# Altium footprint library DPAK_SMD.PcbLib: 28 footprints (part 1 of 2)
Each footprint in its own frame and in the unit in brackets; x right, y up, seen from the top. Pads: shape width x height; smd on the part's side, far side on the other; paste and mask are expansions set on the pad; w line width, h text height; cw(c..) or ccw(c..) is an arc to the next point about the centre after c.
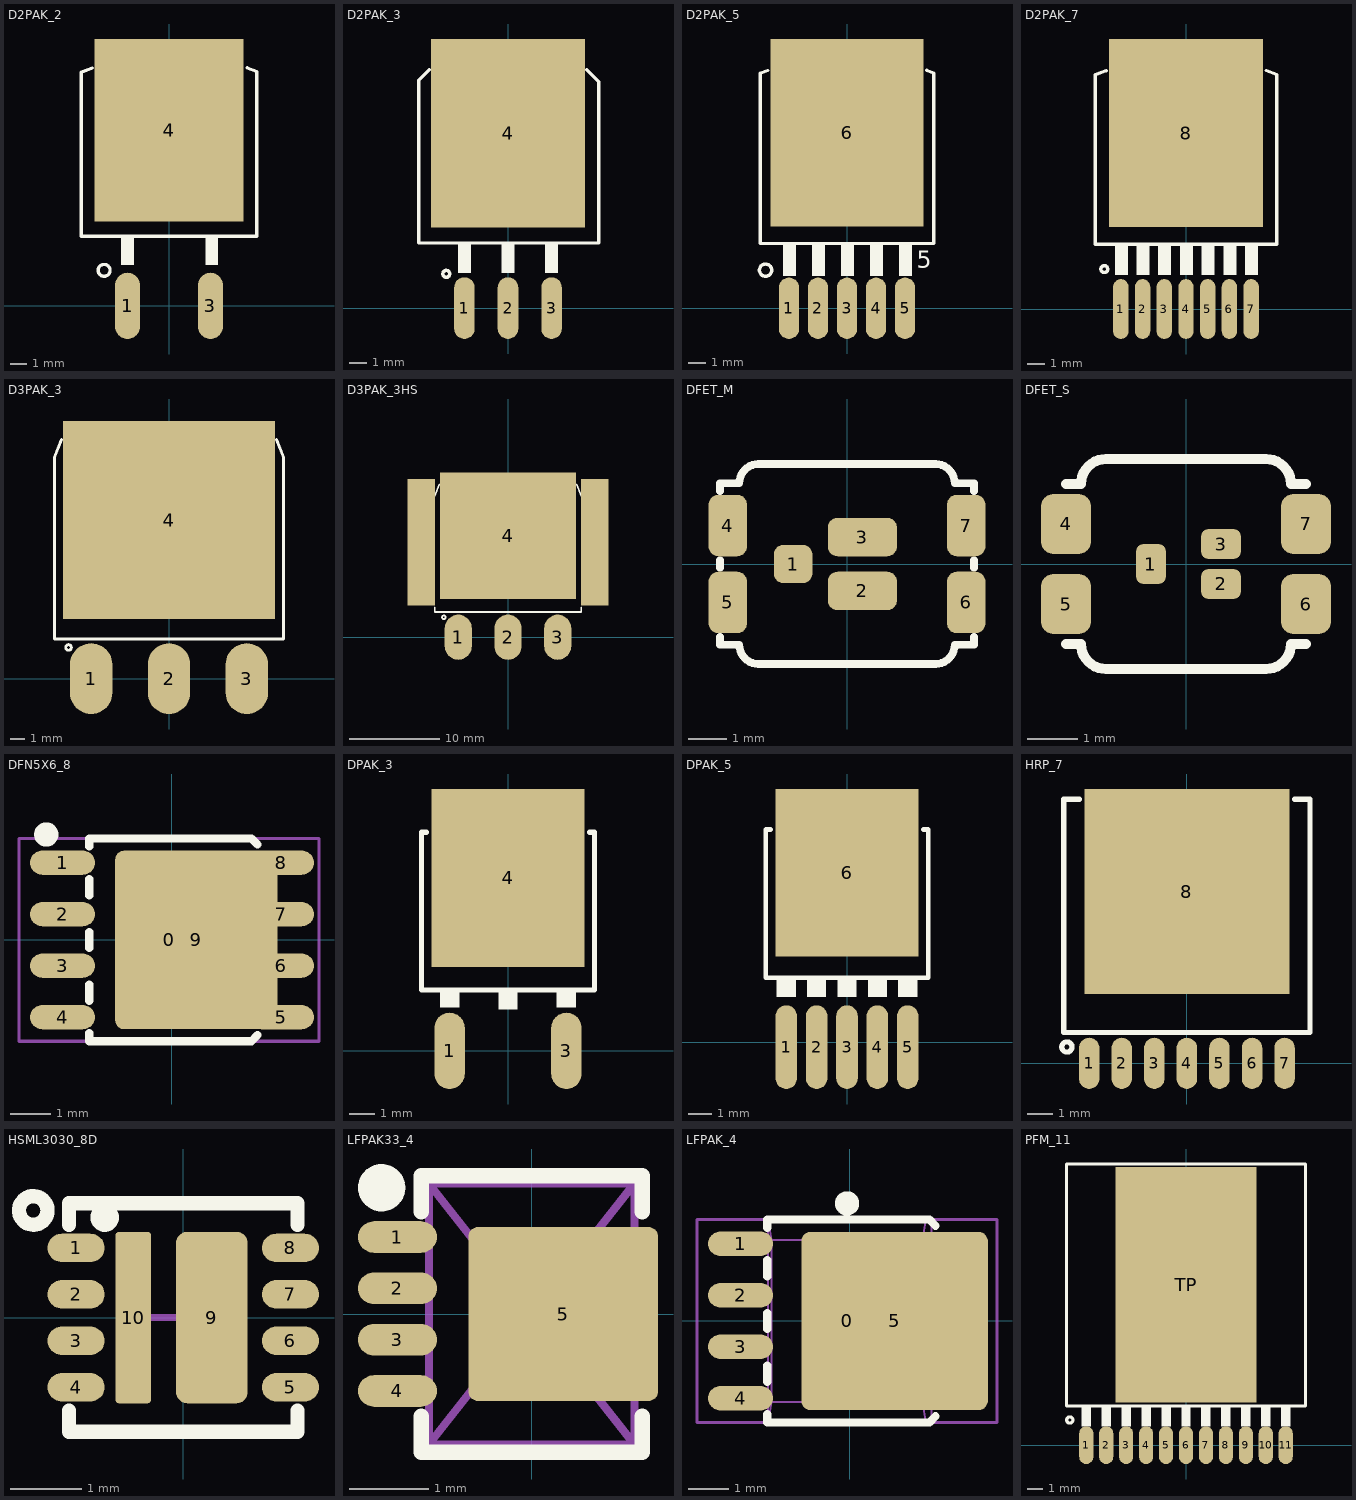
[diagram p0: the footprints below, top view; thin cyan lines are the x and y axes]

## D2PAK_2 [mm] "D2PAK-3, FMG500_3_S1000"
pads (3):
  oval 1.5x4 smd: 1(-2.5,0) 3(2.5,0)
  rect 9x11 smd paste-5: 4(0,10.6)
Top Overlay:
  circle w0.2: c-3.915,2.14 r0.359
  rectangle: 2.199,2.451 2.961,4.175
  rectangle: -2.881,2.451 -2.119,4.175
  lines w0.2: -4.618,14.352 -5.3,14.094 -5.3,4.2 5.3,4.2 5.3,14.139 4.724,14.358
Top Paste:
  region: -0.2,7.7 -1.2,7.7 -1.2,6.7 -0.2,6.7
  rectangle: -4,6.7 -3,7.7
  region: -0.2,8.1 -0.2,9.1 -1.2,9.1 -1.2,8.1
  region: -3,5.3 -3,6.3 -4,6.3 -4,5.3
  rectangle: -4,8.1 -3,9.1
  rectangle: -2.6,6.7 -1.6,7.7
  rectangle: -1.2,5.3 -0.2,6.3
  region: -1.6,5.3 -1.6,6.3 -2.6,6.3 -2.6,5.3
  region: -2.6,9.1 -2.6,8.1 -1.6,8.1 -1.6,9.1
  region: -2.6,13.3 -2.6,12.3 -1.6,12.3 -1.6,13.3
  region: -1.6,9.5 -1.6,10.5 -2.6,10.5 -2.6,9.5
  rectangle: -1.2,9.5 -0.2,10.5
  rectangle: -2.6,10.9 -1.6,11.9
  rectangle: -4,12.3 -3,13.3
  region: -3,9.5 -3,10.5 -4,10.5 -4,9.5
  region: -0.2,12.3 -0.2,13.3 -1.2,13.3 -1.2,12.3
  rectangle: -4,10.9 -3,11.9
  region: -0.2,11.9 -1.2,11.9 -1.2,10.9 -0.2,10.9
  region: -0.2,14.7 -1.2,14.7 -1.2,13.7 -0.2,13.7
  rectangle: -4,13.7 -3,14.7
  rectangle: -2.6,13.7 -1.6,14.7
  region: 2.6,14.7 1.6,14.7 1.6,13.7 2.6,13.7
  region: 4,14.7 3,14.7 3,13.7 4,13.7
  rectangle: 0.2,13.7 1.2,14.7
  rectangle: 0.2,10.9 1.2,11.9
  region: 4,11.9 3,11.9 3,10.9 4,10.9
  region: 1.2,12.3 1.2,13.3 0.2,13.3 0.2,12.3
  region: 4,9.5 4,10.5 3,10.5 3,9.5
  region: 4,13.3 3,13.3 3,12.3 4,12.3
  region: 2.6,11.9 1.6,11.9 1.6,10.9 2.6,10.9
  region: 1.2,10.5 0.2,10.5 0.2,9.5 1.2,9.5
  region: 2.6,9.5 2.6,10.5 1.6,10.5 1.6,9.5
  region: 1.6,13.3 1.6,12.3 2.6,12.3 2.6,13.3
  region: 1.6,9.1 1.6,8.1 2.6,8.1 2.6,9.1
  region: 2.6,5.3 2.6,6.3 1.6,6.3 1.6,5.3
  region: 1.2,6.3 0.2,6.3 0.2,5.3 1.2,5.3
  region: 2.6,7.7 1.6,7.7 1.6,6.7 2.6,6.7
  region: 4,9.1 3,9.1 3,8.1 4,8.1
  region: 4,5.3 4,6.3 3,6.3 3,5.3
  region: 1.2,8.1 1.2,9.1 0.2,9.1 0.2,8.1
  region: 4,7.7 3,7.7 3,6.7 4,6.7
  rectangle: 0.2,6.7 1.2,7.7
3D body "User Library-D2PAK.step": height 4.83, standoff 0, extent -5.335,-0.8 5.335,15.08

## D2PAK_3 [mm] "D2-PAK, 4-Pads, Body 7.6x8.6mm"
height 4.7
pads (4):
  oval 1.2x3.6 smd: 1(-2.54,0) 2(0,0) 3(2.54,0)
  rect 9x11 smd paste-6: 4(0,10.2)
Top Overlay:
  circle w0.2: c-3.6,2 r0.2
  rectangle: -2.921,2.051 -2.159,3.775
  rectangle: -0.381,2.051 0.381,3.775
  rectangle: 2.159,2.051 2.921,3.775
  lines w0.2: -4.605,13.901 -5.2,13.294 -5.2,3.8 5.3,3.8 5.3,13.194 ; 4.605,13.901 5.299,13.193
Top Paste:
  rectangle: 0.2,6.7 1.2,7.7
  region: 4,7.7 3,7.7 3,6.7 4,6.7
  region: 1.2,8.1 1.2,9.1 0.2,9.1 0.2,8.1
  region: 4,5.3 4,6.3 3,6.3 3,5.3
  region: 4,9.1 3,9.1 3,8.1 4,8.1
  region: 2.6,7.7 1.6,7.7 1.6,6.7 2.6,6.7
  region: 1.2,6.3 0.2,6.3 0.2,5.3 1.2,5.3
  region: 2.6,5.3 2.6,6.3 1.6,6.3 1.6,5.3
  region: 1.6,9.1 1.6,8.1 2.6,8.1 2.6,9.1
  region: 1.6,13.3 1.6,12.3 2.6,12.3 2.6,13.3
  region: 2.6,9.5 2.6,10.5 1.6,10.5 1.6,9.5
  region: 1.2,10.5 0.2,10.5 0.2,9.5 1.2,9.5
  region: 2.6,11.9 1.6,11.9 1.6,10.9 2.6,10.9
  region: 4,13.3 3,13.3 3,12.3 4,12.3
  region: 4,9.5 4,10.5 3,10.5 3,9.5
  region: 1.2,12.3 1.2,13.3 0.2,13.3 0.2,12.3
  region: 4,11.9 3,11.9 3,10.9 4,10.9
  rectangle: 0.2,10.9 1.2,11.9
  rectangle: 0.2,13.7 1.2,14.7
  region: 4,14.7 3,14.7 3,13.7 4,13.7
  region: 2.6,14.7 1.6,14.7 1.6,13.7 2.6,13.7
  rectangle: -2.6,13.7 -1.6,14.7
  rectangle: -4,13.7 -3,14.7
  region: -0.2,14.7 -1.2,14.7 -1.2,13.7 -0.2,13.7
  region: -0.2,11.9 -1.2,11.9 -1.2,10.9 -0.2,10.9
  rectangle: -4,10.9 -3,11.9
  region: -0.2,12.3 -0.2,13.3 -1.2,13.3 -1.2,12.3
  region: -3,9.5 -3,10.5 -4,10.5 -4,9.5
  rectangle: -4,12.3 -3,13.3
  rectangle: -2.6,10.9 -1.6,11.9
  rectangle: -1.2,9.5 -0.2,10.5
  region: -1.6,9.5 -1.6,10.5 -2.6,10.5 -2.6,9.5
  region: -2.6,13.3 -2.6,12.3 -1.6,12.3 -1.6,13.3
  region: -2.6,9.1 -2.6,8.1 -1.6,8.1 -1.6,9.1
  region: -1.6,5.3 -1.6,6.3 -2.6,6.3 -2.6,5.3
  rectangle: -1.2,5.3 -0.2,6.3
  rectangle: -2.6,6.7 -1.6,7.7
  rectangle: -4,8.1 -3,9.1
  region: -3,5.3 -3,6.3 -4,6.3 -4,5.3
  region: -0.2,8.1 -0.2,9.1 -1.2,9.1 -1.2,8.1
  rectangle: -4,6.7 -3,7.7
  region: -0.2,7.7 -1.2,7.7 -1.2,6.7 -0.2,6.7
3D body "User Library-TO263-3-1.STEP": height 4.6, standoff -0.03, extent -5.167,-1.254 5.233,14.596

## D2PAK_5 [mm] "TO-263-5L, D2PAK-5, DDPAK, FMG170_5_S1000"
pads (6):
  oval 1.2x3.6 smd: 1(-3.404,0) 2(-1.702,0) 3(0,0) 4(1.702,0) 5(3.404,0)
  rect 9x11 smd paste-6: 6(0,10.3)
Top Overlay:
  circle w0.2: c-4.779,2.24 r0.359
  rectangle: -3.759,1.9 -2.997,3.764
  rectangle: -2.057,1.9 -1.295,3.764
  rectangle: -0.356,1.9 0.406,3.764
  rectangle: 1.346,1.9 2.108,3.764
  rectangle: 3.048,1.9 3.81,3.764
  lines w0.2: -5.1,13.8 -5.1,3.8 5.1,3.8 5.1,13.8 4.684,13.958 ; -5.06,13.8 -4.658,13.952
  text "5" at 4.089,2.367 h1.02
Top Paste:
  region: -0.2,7.7 -1.2,7.7 -1.2,6.7 -0.2,6.7
  rectangle: -4,6.7 -3,7.7
  region: -0.2,8.1 -0.2,9.1 -1.2,9.1 -1.2,8.1
  region: -3,5.3 -3,6.3 -4,6.3 -4,5.3
  rectangle: -4,8.1 -3,9.1
  rectangle: -2.6,6.7 -1.6,7.7
  rectangle: -1.2,5.3 -0.2,6.3
  region: -1.6,5.3 -1.6,6.3 -2.6,6.3 -2.6,5.3
  region: -2.6,9.1 -2.6,8.1 -1.6,8.1 -1.6,9.1
  region: -2.6,13.3 -2.6,12.3 -1.6,12.3 -1.6,13.3
  region: -1.6,9.5 -1.6,10.5 -2.6,10.5 -2.6,9.5
  rectangle: -1.2,9.5 -0.2,10.5
  rectangle: -2.6,10.9 -1.6,11.9
  rectangle: -4,12.3 -3,13.3
  region: -3,9.5 -3,10.5 -4,10.5 -4,9.5
  region: -0.2,12.3 -0.2,13.3 -1.2,13.3 -1.2,12.3
  rectangle: -4,10.9 -3,11.9
  region: -0.2,11.9 -1.2,11.9 -1.2,10.9 -0.2,10.9
  region: -0.2,14.7 -1.2,14.7 -1.2,13.7 -0.2,13.7
  rectangle: -4,13.7 -3,14.7
  rectangle: -2.6,13.7 -1.6,14.7
  region: 2.6,14.7 1.6,14.7 1.6,13.7 2.6,13.7
  region: 4,14.7 3,14.7 3,13.7 4,13.7
  rectangle: 0.2,13.7 1.2,14.7
  rectangle: 0.2,10.9 1.2,11.9
  region: 4,11.9 3,11.9 3,10.9 4,10.9
  region: 1.2,12.3 1.2,13.3 0.2,13.3 0.2,12.3
  region: 4,9.5 4,10.5 3,10.5 3,9.5
  region: 4,13.3 3,13.3 3,12.3 4,12.3
  region: 2.6,11.9 1.6,11.9 1.6,10.9 2.6,10.9
  region: 1.2,10.5 0.2,10.5 0.2,9.5 1.2,9.5
  region: 2.6,9.5 2.6,10.5 1.6,10.5 1.6,9.5
  region: 1.6,13.3 1.6,12.3 2.6,12.3 2.6,13.3
  region: 1.6,9.1 1.6,8.1 2.6,8.1 2.6,9.1
  region: 2.6,5.3 2.6,6.3 1.6,6.3 1.6,5.3
  region: 1.2,6.3 0.2,6.3 0.2,5.3 1.2,5.3
  region: 2.6,7.7 1.6,7.7 1.6,6.7 2.6,6.7
  region: 4,9.1 3,9.1 3,8.1 4,8.1
  region: 4,5.3 4,6.3 3,6.3 3,5.3
  region: 1.2,8.1 1.2,9.1 0.2,9.1 0.2,8.1
  region: 4,7.7 3,7.7 3,6.7 4,6.7
  rectangle: 0.2,6.7 1.2,7.7
3D body "User Library-D2PAK TO-263-5.step": height 4.87, standoff 0, extent -5.08,-0.84 5.08,13.39

## D2PAK_7 [mm] "TO-263-7, D2PAK-7, NDW-7, TO-PMOD-7"
pads (8):
  oval 0.9x3.5 smd: 1(-3.81,0) 2(-2.54,0) 3(-1.27,0) 4(0,0) 5(1.27,0) 6(2.54,0) 7(3.81,0)
  rect 9x11 smd paste-5: 8(0,10.3)
Top Overlay:
  circle w0.2: c-4.779,2.34 r0.2
  rectangle: 3.454,2 4.216,3.8
  rectangle: 2.184,2 2.946,3.8
  rectangle: 0.914,2 1.676,3.8
  rectangle: -0.356,2 0.406,3.8
  rectangle: -1.626,2 -0.864,3.8
  rectangle: -2.896,2 -2.134,3.8
  rectangle: -4.166,2 -3.404,3.8
  lines w0.2: -4.658,13.952 -5.3,13.709 -5.3,3.8 5.3,3.8 5.3,13.724 4.684,13.958
Top Paste:
  region: -0.2,7.7 -1.2,7.7 -1.2,6.7 -0.2,6.7
  rectangle: -4,6.7 -3,7.7
  region: -0.2,8.1 -0.2,9.1 -1.2,9.1 -1.2,8.1
  region: -3,5.3 -3,6.3 -4,6.3 -4,5.3
  rectangle: -4,8.1 -3,9.1
  rectangle: -2.6,6.7 -1.6,7.7
  rectangle: -1.2,5.3 -0.2,6.3
  region: -1.6,5.3 -1.6,6.3 -2.6,6.3 -2.6,5.3
  region: -2.6,9.1 -2.6,8.1 -1.6,8.1 -1.6,9.1
  region: -2.6,13.3 -2.6,12.3 -1.6,12.3 -1.6,13.3
  region: -1.6,9.5 -1.6,10.5 -2.6,10.5 -2.6,9.5
  rectangle: -1.2,9.5 -0.2,10.5
  rectangle: -2.6,10.9 -1.6,11.9
  rectangle: -4,12.3 -3,13.3
  region: -3,9.5 -3,10.5 -4,10.5 -4,9.5
  region: -0.2,12.3 -0.2,13.3 -1.2,13.3 -1.2,12.3
  rectangle: -4,10.9 -3,11.9
  region: -0.2,11.9 -1.2,11.9 -1.2,10.9 -0.2,10.9
  region: -0.2,14.7 -1.2,14.7 -1.2,13.7 -0.2,13.7
  rectangle: -4,13.7 -3,14.7
  rectangle: -2.6,13.7 -1.6,14.7
  region: 2.6,14.7 1.6,14.7 1.6,13.7 2.6,13.7
  region: 4,14.7 3,14.7 3,13.7 4,13.7
  rectangle: 0.2,13.7 1.2,14.7
  rectangle: 0.2,10.9 1.2,11.9
  region: 4,11.9 3,11.9 3,10.9 4,10.9
  region: 1.2,12.3 1.2,13.3 0.2,13.3 0.2,12.3
  region: 4,9.5 4,10.5 3,10.5 3,9.5
  region: 4,13.3 3,13.3 3,12.3 4,12.3
  region: 2.6,11.9 1.6,11.9 1.6,10.9 2.6,10.9
  region: 1.2,10.5 0.2,10.5 0.2,9.5 1.2,9.5
  region: 2.6,9.5 2.6,10.5 1.6,10.5 1.6,9.5
  region: 1.6,13.3 1.6,12.3 2.6,12.3 2.6,13.3
  region: 1.6,9.1 1.6,8.1 2.6,8.1 2.6,9.1
  region: 2.6,5.3 2.6,6.3 1.6,6.3 1.6,5.3
  region: 1.2,6.3 0.2,6.3 0.2,5.3 1.2,5.3
  region: 2.6,7.7 1.6,7.7 1.6,6.7 2.6,6.7
  region: 4,9.1 3,9.1 3,8.1 4,8.1
  region: 4,5.3 4,6.3 3,6.3 3,5.3
  region: 1.2,8.1 1.2,9.1 0.2,9.1 0.2,8.1
  region: 4,7.7 3,7.7 3,6.7 4,6.7
  rectangle: 0.2,6.7 1.2,7.7
3D body "User Library-D2PAK-7.step": height 4.5, standoff 0, extent -5.2,-1.6 5.2,14.074

## D3PAK_3 [mm] "D3-PAK, 4-Pads, TO-268AA"
height 4.7
pads (4):
  oval 3x5 smd paste-0.5: 1(-5.5,0) 2(0,0) 3(5.5,0)
  rect 15x14 smd paste-8: 4(0,11.2)
Top Overlay:
  circle w0.2: c-7.1,2.2 r0.2
  lines w0.2: -7.6,16.9 -8.1,15.6 -8.1,2.8 8.1,2.8 8.1,15.6 7.6,16.9
Top Paste:
  region: -2.6,15.6 -2.6,14.6 -1.6,14.6 -1.6,15.6
  rectangle: -4,14.6 -3,15.6
  region: -0.2,14.6 -0.2,15.6 -1.2,15.6 -1.2,14.6
  region: -0.2,17 -1.2,17 -1.2,16 -0.2,16
  rectangle: -4,16 -3,17
  rectangle: -2.6,16 -1.6,17
  region: 2.6,17 1.6,17 1.6,16 2.6,16
  region: 4,17 3,17 3,16 4,16
  rectangle: 0.2,16 1.2,17
  region: 1.2,14.6 1.2,15.6 0.2,15.6 0.2,14.6
  region: 4,15.6 3,15.6 3,14.6 4,14.6
  region: 1.6,15.6 1.6,14.6 2.6,14.6 2.6,15.6
  rectangle: -5.4,16 -4.4,17
  rectangle: -6.8,16 -5.8,17
  rectangle: -6.8,14.6 -5.8,15.6
  region: -5.4,15.6 -5.4,14.6 -4.4,14.6 -4.4,15.6
  region: 5.4,17 4.4,17 4.4,16 5.4,16
  region: 6.8,17 5.8,17 5.8,16 6.8,16
  region: 6.8,15.6 5.8,15.6 5.8,14.6 6.8,14.6
  region: 4.4,15.6 4.4,14.6 5.4,14.6 5.4,15.6
  region: 6.8,7.2 5.8,7.2 5.8,6.2 6.8,6.2
  region: 6.8,4.8 6.8,5.8 5.8,5.8 5.8,4.8
  region: 6.8,8.6 5.8,8.6 5.8,7.6 6.8,7.6
  region: 5.4,7.2 4.4,7.2 4.4,6.2 5.4,6.2
  region: 5.4,4.8 5.4,5.8 4.4,5.8 4.4,4.8
  region: 4.4,8.6 4.4,7.6 5.4,7.6 5.4,8.6
  region: 4.4,12.8 4.4,11.8 5.4,11.8 5.4,12.8
  region: 5.4,9 5.4,10 4.4,10 4.4,9
  region: 5.4,11.4 4.4,11.4 4.4,10.4 5.4,10.4
  region: 6.8,12.8 5.8,12.8 5.8,11.8 6.8,11.8
  region: 6.8,9 6.8,10 5.8,10 5.8,9
  region: 6.8,11.4 5.8,11.4 5.8,10.4 6.8,10.4
  region: 6.8,14.2 5.8,14.2 5.8,13.2 6.8,13.2
  region: 5.4,14.2 4.4,14.2 4.4,13.2 5.4,13.2
  rectangle: -6.8,6.2 -5.8,7.2
  region: -5.8,4.8 -5.8,5.8 -6.8,5.8 -6.8,4.8
  rectangle: -6.8,7.6 -5.8,8.6
  rectangle: -5.4,6.2 -4.4,7.2
  region: -4.4,4.8 -4.4,5.8 -5.4,5.8 -5.4,4.8
  region: -5.4,8.6 -5.4,7.6 -4.4,7.6 -4.4,8.6
  region: -5.4,12.8 -5.4,11.8 -4.4,11.8 -4.4,12.8
  region: -4.4,9 -4.4,10 -5.4,10 -5.4,9
  rectangle: -5.4,10.4 -4.4,11.4
  rectangle: -6.8,11.8 -5.8,12.8
  region: -5.8,9 -5.8,10 -6.8,10 -6.8,9
  rectangle: -6.8,10.4 -5.8,11.4
  rectangle: -6.8,13.2 -5.8,14.2
  rectangle: -5.4,13.2 -4.4,14.2
  rectangle: 0.2,6.2 1.2,7.2
  region: 4,7.2 3,7.2 3,6.2 4,6.2
  region: 1.2,7.6 1.2,8.6 0.2,8.6 0.2,7.6
  region: 4,4.8 4,5.8 3,5.8 3,4.8
  region: 4,8.6 3,8.6 3,7.6 4,7.6
  region: 2.6,7.2 1.6,7.2 1.6,6.2 2.6,6.2
  region: 1.2,5.8 0.2,5.8 0.2,4.8 1.2,4.8
  region: 2.6,4.8 2.6,5.8 1.6,5.8 1.6,4.8
  region: 1.6,8.6 1.6,7.6 2.6,7.6 2.6,8.6
  region: 1.6,12.8 1.6,11.8 2.6,11.8 2.6,12.8
  region: 2.6,9 2.6,10 1.6,10 1.6,9
  region: 1.2,10 0.2,10 0.2,9 1.2,9
  region: 2.6,11.4 1.6,11.4 1.6,10.4 2.6,10.4
  region: 4,12.8 3,12.8 3,11.8 4,11.8
  region: 4,9 4,10 3,10 3,9
  region: 1.2,11.8 1.2,12.8 0.2,12.8 0.2,11.8
  region: 4,11.4 3,11.4 3,10.4 4,10.4
  rectangle: 0.2,10.4 1.2,11.4
  rectangle: 0.2,13.2 1.2,14.2
  region: 4,14.2 3,14.2 3,13.2 4,13.2
  region: 2.6,14.2 1.6,14.2 1.6,13.2 2.6,13.2
  rectangle: -2.6,13.2 -1.6,14.2
  rectangle: -4,13.2 -3,14.2
  region: -0.2,14.2 -1.2,14.2 -1.2,13.2 -0.2,13.2
  region: -0.2,11.4 -1.2,11.4 -1.2,10.4 -0.2,10.4
  rectangle: -4,10.4 -3,11.4
  region: -0.2,11.8 -0.2,12.8 -1.2,12.8 -1.2,11.8
  region: -3,9 -3,10 -4,10 -4,9
  rectangle: -4,11.8 -3,12.8
  rectangle: -2.6,10.4 -1.6,11.4
  rectangle: -1.2,9 -0.2,10
  region: -1.6,9 -1.6,10 -2.6,10 -2.6,9
  region: -2.6,12.8 -2.6,11.8 -1.6,11.8 -1.6,12.8
  region: -2.6,8.6 -2.6,7.6 -1.6,7.6 -1.6,8.6
  region: -1.6,4.8 -1.6,5.8 -2.6,5.8 -2.6,4.8
  rectangle: -1.2,4.8 -0.2,5.8
  rectangle: -2.6,6.2 -1.6,7.2
  rectangle: -4,7.6 -3,8.6
  region: -3,4.8 -3,5.8 -4,5.8 -4,4.8
  region: -0.2,7.6 -0.2,8.6 -1.2,8.6 -1.2,7.6
  rectangle: -4,6.2 -3,7.2
  region: -0.2,7.2 -1.2,7.2 -1.2,6.2 -0.2,6.2
3D body "User Library-TO545P1905X510_HS-3.step": height 5.1, standoff 0, extent -8.001,-1.3 8.001,17.75

## D3PAK_3HS [mm] "D3-PAK, 4-Pads, TO-268AA"
height 4.7
pads (6):
  oval 3x5 smd paste-0.5: 1(-5.5,0) 2(0,0) 3(5.5,0)
  rect 15x14 smd paste-8: 4(0,11.2)
  rect 3x14 smd paste-7: ""(-9.6,10.5) ""(9.6,10.5)
Top Overlay:
  circle w0.2: c-7.1,2.2 r0.2
  lines w0.2: -8.1,3.3 -8.1,2.8 8.1,2.8 8.1,3.3 ; -8.1,15.6 -7.6,16.9 ; 7.6,16.9 8.1,15.6
Top Paste:
  region: -2.6,15.6 -2.6,14.6 -1.6,14.6 -1.6,15.6
  rectangle: -4,14.6 -3,15.6
  region: -0.2,14.6 -0.2,15.6 -1.2,15.6 -1.2,14.6
  region: -0.2,17 -1.2,17 -1.2,16 -0.2,16
  rectangle: -4,16 -3,17
  rectangle: -2.6,16 -1.6,17
  region: 2.6,17 1.6,17 1.6,16 2.6,16
  region: 4,17 3,17 3,16 4,16
  rectangle: 0.2,16 1.2,17
  region: 1.2,14.6 1.2,15.6 0.2,15.6 0.2,14.6
  region: 4,15.6 3,15.6 3,14.6 4,14.6
  region: 1.6,15.6 1.6,14.6 2.6,14.6 2.6,15.6
  rectangle: -5.4,16 -4.4,17
  rectangle: -6.8,16 -5.8,17
  rectangle: -6.8,14.6 -5.8,15.6
  region: -5.4,15.6 -5.4,14.6 -4.4,14.6 -4.4,15.6
  region: 5.4,17 4.4,17 4.4,16 5.4,16
  region: 6.8,17 5.8,17 5.8,16 6.8,16
  region: 6.8,15.6 5.8,15.6 5.8,14.6 6.8,14.6
  region: 4.4,15.6 4.4,14.6 5.4,14.6 5.4,15.6
  region: 6.8,7.2 5.8,7.2 5.8,6.2 6.8,6.2
  region: 6.8,4.8 6.8,5.8 5.8,5.8 5.8,4.8
  region: 6.8,8.6 5.8,8.6 5.8,7.6 6.8,7.6
  region: 5.4,7.2 4.4,7.2 4.4,6.2 5.4,6.2
  region: 5.4,4.8 5.4,5.8 4.4,5.8 4.4,4.8
  region: 4.4,8.6 4.4,7.6 5.4,7.6 5.4,8.6
  region: 4.4,12.8 4.4,11.8 5.4,11.8 5.4,12.8
  region: 5.4,9 5.4,10 4.4,10 4.4,9
  region: 5.4,11.4 4.4,11.4 4.4,10.4 5.4,10.4
  region: 6.8,12.8 5.8,12.8 5.8,11.8 6.8,11.8
  region: 6.8,9 6.8,10 5.8,10 5.8,9
  region: 6.8,11.4 5.8,11.4 5.8,10.4 6.8,10.4
  region: 6.8,14.2 5.8,14.2 5.8,13.2 6.8,13.2
  region: 5.4,14.2 4.4,14.2 4.4,13.2 5.4,13.2
  rectangle: -6.8,6.2 -5.8,7.2
  region: -5.8,4.8 -5.8,5.8 -6.8,5.8 -6.8,4.8
  rectangle: -6.8,7.6 -5.8,8.6
  rectangle: -5.4,6.2 -4.4,7.2
  region: -4.4,4.8 -4.4,5.8 -5.4,5.8 -5.4,4.8
  region: -5.4,8.6 -5.4,7.6 -4.4,7.6 -4.4,8.6
  region: -5.4,12.8 -5.4,11.8 -4.4,11.8 -4.4,12.8
  region: -4.4,9 -4.4,10 -5.4,10 -5.4,9
  rectangle: -5.4,10.4 -4.4,11.4
  rectangle: -6.8,11.8 -5.8,12.8
  region: -5.8,9 -5.8,10 -6.8,10 -6.8,9
  rectangle: -6.8,10.4 -5.8,11.4
  rectangle: -6.8,13.2 -5.8,14.2
  rectangle: -5.4,13.2 -4.4,14.2
  rectangle: 0.2,6.2 1.2,7.2
  region: 4,7.2 3,7.2 3,6.2 4,6.2
  region: 1.2,7.6 1.2,8.6 0.2,8.6 0.2,7.6
  region: 4,4.8 4,5.8 3,5.8 3,4.8
  region: 4,8.6 3,8.6 3,7.6 4,7.6
  region: 2.6,7.2 1.6,7.2 1.6,6.2 2.6,6.2
  region: 1.2,5.8 0.2,5.8 0.2,4.8 1.2,4.8
  region: 2.6,4.8 2.6,5.8 1.6,5.8 1.6,4.8
  region: 1.6,8.6 1.6,7.6 2.6,7.6 2.6,8.6
  region: 1.6,12.8 1.6,11.8 2.6,11.8 2.6,12.8
  region: 2.6,9 2.6,10 1.6,10 1.6,9
  region: 1.2,10 0.2,10 0.2,9 1.2,9
  region: 2.6,11.4 1.6,11.4 1.6,10.4 2.6,10.4
  region: 4,12.8 3,12.8 3,11.8 4,11.8
  region: 4,9 4,10 3,10 3,9
  region: 1.2,11.8 1.2,12.8 0.2,12.8 0.2,11.8
  region: 4,11.4 3,11.4 3,10.4 4,10.4
  rectangle: 0.2,10.4 1.2,11.4
  rectangle: 0.2,13.2 1.2,14.2
  region: 4,14.2 3,14.2 3,13.2 4,13.2
  region: 2.6,14.2 1.6,14.2 1.6,13.2 2.6,13.2
  rectangle: -2.6,13.2 -1.6,14.2
  rectangle: -4,13.2 -3,14.2
  region: -0.2,14.2 -1.2,14.2 -1.2,13.2 -0.2,13.2
  region: -0.2,11.4 -1.2,11.4 -1.2,10.4 -0.2,10.4
  rectangle: -4,10.4 -3,11.4
  region: -0.2,11.8 -0.2,12.8 -1.2,12.8 -1.2,11.8
  region: -3,9 -3,10 -4,10 -4,9
  rectangle: -4,11.8 -3,12.8
  rectangle: -2.6,10.4 -1.6,11.4
  rectangle: -1.2,9 -0.2,10
  region: -1.6,9 -1.6,10 -2.6,10 -2.6,9
  region: -2.6,12.8 -2.6,11.8 -1.6,11.8 -1.6,12.8
  region: -2.6,8.6 -2.6,7.6 -1.6,7.6 -1.6,8.6
  region: -1.6,4.8 -1.6,5.8 -2.6,5.8 -2.6,4.8
  rectangle: -1.2,4.8 -0.2,5.8
  rectangle: -2.6,6.2 -1.6,7.2
  rectangle: -4,7.6 -3,8.6
  region: -3,4.8 -3,5.8 -4,5.8 -4,4.8
  region: -0.2,7.6 -0.2,8.6 -1.2,8.6 -1.2,7.6
  rectangle: -4,6.2 -3,7.2
  region: -0.2,7.2 -1.2,7.2 -1.2,6.2 -0.2,6.2
  rectangle: -9.4,13.2 -8.4,14.2
  rectangle: -10.8,13.2 -9.8,14.2
  rectangle: -10.8,10.4 -9.8,11.4
  region: -9.8,9 -9.8,10 -10.8,10 -10.8,9
  rectangle: -10.8,11.8 -9.8,12.8
  rectangle: -9.4,10.4 -8.4,11.4
  region: -8.4,9 -8.4,10 -9.4,10 -9.4,9
  region: -9.4,12.8 -9.4,11.8 -8.4,11.8 -8.4,12.8
  region: -9.4,8.6 -9.4,7.6 -8.4,7.6 -8.4,8.6
  region: -8.4,4.8 -8.4,5.8 -9.4,5.8 -9.4,4.8
  rectangle: -9.4,6.2 -8.4,7.2
  rectangle: -10.8,7.6 -9.8,8.6
  region: -9.8,4.8 -9.8,5.8 -10.8,5.8 -10.8,4.8
  rectangle: -10.8,6.2 -9.8,7.2
  region: -9.4,15.6 -9.4,14.6 -8.4,14.6 -8.4,15.6
  rectangle: -10.8,14.6 -9.8,15.6
  rectangle: -10.8,16 -9.8,17
  rectangle: -9.4,16 -8.4,17
  region: 9.4,17 8.4,17 8.4,16 9.4,16
  region: 10.8,17 9.8,17 9.8,16 10.8,16
  region: 10.8,15.6 9.8,15.6 9.8,14.6 10.8,14.6
  region: 8.4,15.6 8.4,14.6 9.4,14.6 9.4,15.6
  region: 10.8,7.2 9.8,7.2 9.8,6.2 10.8,6.2
  region: 10.8,4.8 10.8,5.8 9.8,5.8 9.8,4.8
  region: 10.8,8.6 9.8,8.6 9.8,7.6 10.8,7.6
  region: 9.4,7.2 8.4,7.2 8.4,6.2 9.4,6.2
  region: 9.4,4.8 9.4,5.8 8.4,5.8 8.4,4.8
  region: 8.4,8.6 8.4,7.6 9.4,7.6 9.4,8.6
  region: 8.4,12.8 8.4,11.8 9.4,11.8 9.4,12.8
  region: 9.4,9 9.4,10 8.4,10 8.4,9
  region: 9.4,11.4 8.4,11.4 8.4,10.4 9.4,10.4
  region: 10.8,12.8 9.8,12.8 9.8,11.8 10.8,11.8
  region: 10.8,9 10.8,10 9.8,10 9.8,9
  region: 10.8,11.4 9.8,11.4 9.8,10.4 10.8,10.4
  region: 10.8,14.2 9.8,14.2 9.8,13.2 10.8,13.2
  region: 9.4,14.2 8.4,14.2 8.4,13.2 9.4,13.2
3D body "User Library-Ohmite Style 10 Heatsink.step": height 10.16, standoff 0, extent -15.5,3.923 15.5,16.877
3D body "User Library-TO545P1905X510_HS-3.step": height 5.1, standoff 0, extent -8.001,-1.3 8.001,17.75

## DFET_M [mm] "DirectFET-MX, Medium size canPAK, MG-WDSON-2, 6.3x5x0.7mm"
height 0.7
pads (7):
  rrect50% 1x1 smd paste-0.1 mask+0.075: 1(-1.4,0)
  rrect50% 1.8x1 smd paste-0.1 mask+0.075: 2(0.4,-0.7) 3(0.4,0.7)
  rrect50% 1x1.6 smd paste-0.1: 4(-3.1,1) 5(-3.1,-1) 6(3.1,-1) 7(3.1,1)
Top Overlay:
  lines w0.2: -3.3,-1.9 -3.3,-2.1 -2.8,-2.1 ccw(c-2.3,-2.1) -2.3,-2.6 2.3,-2.6 ccw(c2.3,-2.1) 2.8,-2.1 3.3,-2.1 3.3,-1.9 ; -3.3,-0.1 -3.3,0.1 ; -3.3,1.9 -3.3,2.1 -2.8,2.1 cw(c-2.3,2.1) -2.3,2.6 2.3,2.6 cw(c2.3,2.1) 2.8,2.1 3.3,2.1 3.3,1.9 ; 3.3,-0.1 3.3,0.1
3D body "_DirectFET_MX.step": height 0.75, standoff 0, extent -3.175,-2.525 3.175,2.525

## DFET_S [mm] "DirectFET, Small size can, ST, SC, 5x4x0.7mm"
height 0.7
pads (7):
  rrect50% 0.6x0.8 smd paste-0.1 mask+0.075: 1(-0.7,0)
  rrect50% 0.8x0.6 smd paste-0.1 mask+0.075: 2(0.7,-0.4) 3(0.7,0.4)
  rrect50% 1x1.2 smd paste-0.1: 4(-2.4,0.8) 5(-2.4,-0.8) 6(2.4,-0.8) 7(2.4,0.8)
Top Overlay:
  lines w0.2: -2.4,-1.6 -2.1,-1.6 ccw(c-1.6,-1.6) -1.6,-2.1 1.6,-2.1 ccw(c1.6,-1.6) 2.1,-1.6 2.4,-1.6 ; -2.4,1.6 -2.1,1.6 cw(c-1.6,1.6) -1.6,2.1 1.6,2.1 cw(c1.6,1.6) 2.1,1.6 2.4,1.6
3D body: height 0.7, standoff 0.45, extent -1.8,-1.8 1.8,1.8
3D body: height 0.45, standoff 0.2, extent -2,-2 2,2
3D body: height 0.2, standoff 0, extent -2.4,-1.5 -1.9,1.5
3D body: height 0.2, standoff 0, extent 1.9,-1.5 2.4,1.5

## DFN5X6_8 [mm] "DFN5X6"
height 1.1
pads (10):
  round 1 on Mech15: 0(-0.074,0)
  oval 1.6x0.6 smd: 1(-2.7,1.905) 2(-2.7,0.635) 3(-2.7,-0.635) 4(-2.7,-1.905) 5(2.7,-1.905) 6(2.7,-0.635) 7(2.7,0.635) 8(2.7,1.905)
  rrect10% 4x4.4 smd paste-0.8: 9(0.6,0)
Top Overlay:
  circle w0.3: c-3.1,2.6 r0.15
  lines w0.2: -2.041,-2.3 -2.041,-2.5 1.959,-2.5 2.109,-2.35 ; -2.041,-1.5 -2.041,-1.1 ; -2.041,-0.2 -2.041,0.2 ; -2.041,1.1 -2.041,1.5 ; -2.041,2.3 -2.041,2.5 1.959,2.5 2.109,2.35
Mechanical 15:
  lines w0.076: -3.774,-2.5 3.626,-2.5 3.626,2.5 -3.774,2.5 -3.774,-2.5
3D body "User Library-DFN5X6_8L_EP1_P.step": height 1, standoff 0, extent -3.099,-2.7 2.951,2.7

## DPAK_3 [mm] "D-PAK (TO-252), 3-Pads, Body 6.2x6.7mm"
height 2.4
pads (3):
  oval 1.2x3 smd: 1(-2.3,0) 3(2.3,0)
  rect 6x7 smd paste-5: 4(0,6.8)
Top Overlay:
  rectangle: -0.381,1.632 0.381,2.394
  rectangle: -2.667,1.7 -1.905,2.394
  rectangle: 1.905,1.7 2.667,2.394
  lines w0.2: -3.2,8.6 -3.4,8.6 -3.4,2.4 3.4,2.4 3.4,8.6 3.2,8.6
Top Paste:
  region: -0.2,5.9 -1.2,5.9 -1.2,4.9 -0.2,4.9
  region: -0.2,6.3 -0.2,7.3 -1.2,7.3 -1.2,6.3
  rectangle: -2.6,4.9 -1.6,5.9
  rectangle: -1.2,3.5 -0.2,4.5
  region: -1.6,3.5 -1.6,4.5 -2.6,4.5 -2.6,3.5
  region: -2.6,7.3 -2.6,6.3 -1.6,6.3 -1.6,7.3
  region: -1.6,7.7 -1.6,8.7 -2.6,8.7 -2.6,7.7
  rectangle: -1.2,7.7 -0.2,8.7
  rectangle: -2.6,9.1 -1.6,10.1
  region: -0.2,10.1 -1.2,10.1 -1.2,9.1 -0.2,9.1
  rectangle: 0.2,9.1 1.2,10.1
  region: 2.6,10.1 1.6,10.1 1.6,9.1 2.6,9.1
  region: 1.2,8.7 0.2,8.7 0.2,7.7 1.2,7.7
  region: 2.6,7.7 2.6,8.7 1.6,8.7 1.6,7.7
  region: 1.6,7.3 1.6,6.3 2.6,6.3 2.6,7.3
  region: 2.6,3.5 2.6,4.5 1.6,4.5 1.6,3.5
  region: 1.2,4.5 0.2,4.5 0.2,3.5 1.2,3.5
  region: 2.6,5.9 1.6,5.9 1.6,4.9 2.6,4.9
  region: 1.2,6.3 1.2,7.3 0.2,7.3 0.2,6.3
  rectangle: 0.2,4.9 1.2,5.9
3D body "User Library-DPAK_TO-252AA.step": height 2.37, standoff -0.03, extent -3.367,-0.498 3.367,9.602

## DPAK_5 [mm] "D-PAK (TO-252), 5-Pads, Body 6.2x6.7mm"
height 2.4
pads (6):
  oval 0.9x3.5 smd: 1(-2.54,-0.2) 2(-1.27,-0.2) 3(0,-0.2) 4(1.27,-0.2) 5(2.54,-0.2)
  rect 6x7 smd paste-5: 6(0,7.1)
Top Overlay:
  rectangle: 2.14,1.9 2.94,2.694
  rectangle: -0.4,1.9 0.4,2.694
  rectangle: -1.67,1.9 -0.87,2.694
  rectangle: -2.94,1.9 -2.14,2.694
  rectangle: 0.87,1.9 1.67,2.694
  lines w0.2: -3.2,8.9 -3.4,8.9 -3.4,2.7 3.4,2.7 3.4,8.9 3.2,8.9
Top Paste:
  rectangle: 0.2,5.2 1.2,6.2
  region: 1.2,6.6 1.2,7.6 0.2,7.6 0.2,6.6
  region: 2.6,6.2 1.6,6.2 1.6,5.2 2.6,5.2
  region: 1.2,4.8 0.2,4.8 0.2,3.8 1.2,3.8
  region: 2.6,3.8 2.6,4.8 1.6,4.8 1.6,3.8
  region: 1.6,7.6 1.6,6.6 2.6,6.6 2.6,7.6
  region: 2.6,8 2.6,9 1.6,9 1.6,8
  region: 1.2,9 0.2,9 0.2,8 1.2,8
  region: 2.6,10.4 1.6,10.4 1.6,9.4 2.6,9.4
  rectangle: 0.2,9.4 1.2,10.4
  region: -0.2,10.4 -1.2,10.4 -1.2,9.4 -0.2,9.4
  rectangle: -2.6,9.4 -1.6,10.4
  rectangle: -1.2,8 -0.2,9
  region: -1.6,8 -1.6,9 -2.6,9 -2.6,8
  region: -2.6,7.6 -2.6,6.6 -1.6,6.6 -1.6,7.6
  region: -1.6,3.8 -1.6,4.8 -2.6,4.8 -2.6,3.8
  rectangle: -1.2,3.8 -0.2,4.8
  rectangle: -2.6,5.2 -1.6,6.2
  region: -0.2,6.6 -0.2,7.6 -1.2,7.6 -1.2,6.6
  region: -0.2,6.2 -1.2,6.2 -1.2,5.2 -0.2,5.2
3D body "User Library-DPAK-5-1.step": height 2.4, standoff -0.01, extent -3.35,-0.866 3.35,10

## HRP_7 [mm] "HRP7, 1.27mm pitch"
pads (8):
  oval 0.8x2 smd: 1(-3.81,0) 2(-2.54,0) 3(-1.27,0) 4(0,0) 5(1.27,0) 6(2.54,0) 7(3.81,0)
  rect 8x8 smd paste-5: 8(0,6.7)
Top Overlay:
  circle w0.2: c-4.679,0.64 r0.2
  lines w0.2: -4.2,10.3 -4.8,10.3 -4.8,1.2 4.8,1.2 4.8,10.3 4.2,10.3
Top Paste:
  region: 3.2,5.8 2.2,5.8 2.2,4.8 3.2,4.8
  region: 3.2,3.4 3.2,4.4 2.2,4.4 2.2,3.4
  region: 2.2,7.2 2.2,6.2 3.2,6.2 3.2,7.2
  region: 3.2,7.6 3.2,8.6 2.2,8.6 2.2,7.6
  region: 3.2,10 2.2,10 2.2,9 3.2,9
  region: -1,5.8 -2,5.8 -2,4.8 -1,4.8
  region: -1,6.2 -1,7.2 -2,7.2 -2,6.2
  rectangle: -3.4,4.8 -2.4,5.8
  rectangle: -2,3.4 -1,4.4
  region: -2.4,3.4 -2.4,4.4 -3.4,4.4 -3.4,3.4
  region: -3.4,7.2 -3.4,6.2 -2.4,6.2 -2.4,7.2
  region: -2.4,7.6 -2.4,8.6 -3.4,8.6 -3.4,7.6
  rectangle: -2,7.6 -1,8.6
  rectangle: -3.4,9 -2.4,10
  region: -1,10 -2,10 -2,9 -1,9
  rectangle: -0.6,9 0.4,10
  region: 1.8,10 0.8,10 0.8,9 1.8,9
  region: 0.4,8.6 -0.6,8.6 -0.6,7.6 0.4,7.6
  region: 1.8,7.6 1.8,8.6 0.8,8.6 0.8,7.6
  region: 0.8,7.2 0.8,6.2 1.8,6.2 1.8,7.2
  region: 1.8,3.4 1.8,4.4 0.8,4.4 0.8,3.4
  region: 0.4,4.4 -0.6,4.4 -0.6,3.4 0.4,3.4
  region: 1.8,5.8 0.8,5.8 0.8,4.8 1.8,4.8
  region: 0.4,6.2 0.4,7.2 -0.6,7.2 -0.6,6.2
  rectangle: -0.6,4.8 0.4,5.8
3D body "User Library-hrp7.step": height 1.91, standoff -0.01, extent -4.697,-0.34 4.697,10.2

## HSML3030_8D [mm] "Power Pair33, HSML3030, 0.65P 3.0x3.0x0.8mm"
height 0.8
pads (10):
  oval 0.8x0.4 smd paste-0.05 mask+0.075: 1(-1.5,0.975) 2(-1.5,0.325) 3(-1.5,-0.325) 4(-1.5,-0.975) 5(1.5,-0.975) 6(1.5,-0.325) 7(1.5,0.325) 8(1.5,0.975)
  rrect30% 1x2.4 smd paste-0.1 mask+0.075: 9(0.4,0)
  rrect20% 0.5x2.4 smd paste-0.05 mask+0.075: 10(-0.7,0)
Top Overlay:
  circle w0.2: c-1.1,1.4 r0.1
  circle w0.2: c-2.1,1.5 r0.2
  lines w0.2: -1.6,-1.3 -1.6,-1.6 1.6,-1.6 1.6,-1.3 ; -1.6,1.3 -1.6,1.6 1.6,1.6 1.6,1.3
Mechanical 15:
  lines w0.1: -0.5,0 0.5,0 ; 0,-0.5 0,0.5
3D body "SON65P300X80_HS-9N.step": height 0.8, standoff 0, extent -1.501,-1.5 1.501,1.5

## LFPAK33_4 [mm] "LFPAK33-5, PG-TSDSON-8, WDFN8, 3.3X3.3X0.9mm, 0.65mm pitch"
height 1.1
pads (5):
  oval 1x0.4 smd mask+0.05: 1(-1.7,0.975) 2(-1.7,0.325) 3(-1.7,-0.325) 4(-1.7,-0.975)
  rrect10% 2.4x2.2 smd paste-0.3: 5(0.4,0)
Top Overlay:
  circle w0.3: c-1.9,1.6 r0.15
  lines w0.2: -1.4,-1.3 -1.4,-1.75 1.4,-1.75 1.4,-1.3 ; -1.4,1.3 -1.4,1.75 1.4,1.75 1.4,1.3
Mechanical 13:
  lines w0.1: -1.3,-1.65 1.3,-1.65 ; -1.3,-1.65 -1.3,1.65 ; -1.3,-1.65 1.3,1.65 ; -1.3,1.65 1.3,1.65 ; -1.3,1.65 1.3,-1.65 ; 1.3,-1.65 1.3,1.65
3D body "LFPAK33_User Library-PSMN3R0-30MLC.step": height 0.95, standoff 0, extent -1.91,-1.65 1.41,1.65

## LFPAK_4 [mm] "Renesas LFPAK56, POWER-SO8, SOT669, DFN5X6"
height 1.1
pads (6):
  round 1 on Mech15: 0(-0.074,0)
  oval 1.6x0.6 smd: 1(-2.7,1.905) 2(-2.7,0.635) 3(-2.7,-0.635) 4(-2.7,-1.905)
  rrect10% 4.6x4.4 smd paste-0.8: 5(1.1,0)
Top Overlay:
  circle w0.3: c-0.074,2.9 r0.15
  lines w0.2: -2.041,-2.3 -2.041,-2.5 1.959,-2.5 2.109,-2.35 ; -2.041,-1.5 -2.041,-1.1 ; -2.041,-0.2 -2.041,0.2 ; -2.041,1.1 -2.041,1.5 ; -2.041,2.3 -2.041,2.5 1.959,2.5 2.109,2.35
Mechanical 13:
  circle w0.05: c-0.074,1.5 r0.338
  lines w0.05: -2.705,-2.115 -2.705,-1.695 ; -2.705,-0.845 -2.705,-0.425 ; -2.705,0.425 -2.705,0.845 ; -2.705,1.695 -2.705,2.115 ; -2.617,-2.115 -2.617,-1.695 ; -2.617,-0.845 -2.617,-0.425 ; -2.617,0.425 -2.617,0.845 ; -2.617,1.695 -2.617,2.115 ; -2.58,-2.115 -2.58,-1.695 ; -2.58,-0.845 -2.58,-0.425 ; -2.58,0.425 -2.58,0.845 ; -2.58,1.695 -2.58,2.115 ; -2.29,-2.115 -2.29,-1.695 ; -2.29,-0.845 -2.29,-0.425 ; -2.29,0.425 -2.29,0.845 ; -2.29,1.695 -2.29,2.115 ; -2.024,-2.115 -3.074,-2.115 -3.074,-1.695 -2.024,-1.695 ; -2.024,-0.845 -3.074,-0.845 -3.074,-0.425 -2.024,-0.425 ; -2.024,0.425 -3.074,0.425 -3.074,0.845 -2.024,0.845 ; -2.024,1.695 -3.074,1.695 -3.074,2.115 -2.024,2.115 ; -2.011,-2.45 -1.931,-2.003 ; -2.011,2.45 -1.931,2.003 ; 1.863,-2.45 1.784,-2.003 ; 1.863,2.45 1.784,2.003 ; 2.011,-1.4 2.011,-2.45 -2.024,-2.45 -2.024,2.45 2.011,2.45 2.011,1.4 ; 2.011,-0.6 2.011,0.6 ; -1.931,-2.003 1.784,-2.003 ; -1.931,-2.003 -1.931,2.003 ; -1.931,2.003 1.784,2.003 ; 1.784,-2.003 1.784,2.003 ; 1.954,-1.4 1.954,-0.6 2.026,-0.6 2.026,0.6 1.954,0.6 1.954,1.4 2.226,1.4 2.226,2.1 2.476,2.1 2.926,1.65 2.926,-1.65 2.476,-2.1 2.226,-2.1 2.226,-1.4 1.954,-1.4
Mechanical 15:
  lines w0.076: -3.774,-2.5 3.626,-2.5 3.626,2.5 -3.774,2.5 -3.774,-2.5
3D body "LFPAK.STEP": height 1.1, standoff 0, extent -3.074,-2.45 2.926,2.45

## PFM_11 [mm] "PFM11 (TI), TZA11A, pitch: 127mm, 11p, 15X15mm"
height 4.6
pads (12):
  oval 0.9x2.4 smd paste-0.1 mask+0.1: 1(-6.35,0) 2(-5.08,0) 3(-3.81,0) 4(-2.54,0) 5(-1.27,0) 6(0,0) 7(1.27,0) 8(2.54,0) 9(3.81,0) 10(5.08,0) 11(6.35,0)
  rect 9x15 smd paste-8: TP(0,10.2)
Top Overlay:
  circle w0.2: c-7.4,1.6 r0.2
  rectangle: -0.3,1.2 0.3,2.5
  rectangle: -1.57,1.2 -0.97,2.5
  rectangle: -2.84,1.2 -2.24,2.5
  rectangle: -4.11,1.2 -3.51,2.5
  rectangle: -5.38,1.2 -4.78,2.5
  rectangle: -6.65,1.2 -6.05,2.5
  rectangle: 0.97,1.2 1.57,2.5
  rectangle: 2.24,1.2 2.84,2.5
  rectangle: 3.51,1.2 4.11,2.5
  rectangle: 4.78,1.2 5.38,2.5
  rectangle: 6.05,1.2 6.65,2.5
  lines w0.2: -7.6,2.5 -7.6,17.9 7.6,17.9 7.6,2.5 -7.6,2.5
Top Paste:
  rectangle: 0.2,4.7 1.2,5.7
  region: 4,5.7 3,5.7 3,4.7 4,4.7
  region: 1.2,6.1 1.2,7.1 0.2,7.1 0.2,6.1
  region: 4,3.3 4,4.3 3,4.3 3,3.3
  region: 4,7.1 3,7.1 3,6.1 4,6.1
  region: 2.6,5.7 1.6,5.7 1.6,4.7 2.6,4.7
  region: 1.2,4.3 0.2,4.3 0.2,3.3 1.2,3.3
  region: 2.6,3.3 2.6,4.3 1.6,4.3 1.6,3.3
  region: 1.6,7.1 1.6,6.1 2.6,6.1 2.6,7.1
  region: 1.6,11.3 1.6,10.3 2.6,10.3 2.6,11.3
  region: 2.6,7.5 2.6,8.5 1.6,8.5 1.6,7.5
  region: 1.2,8.5 0.2,8.5 0.2,7.5 1.2,7.5
  region: 2.6,9.9 1.6,9.9 1.6,8.9 2.6,8.9
  region: 4,11.3 3,11.3 3,10.3 4,10.3
  region: 4,7.5 4,8.5 3,8.5 3,7.5
  region: 1.2,10.3 1.2,11.3 0.2,11.3 0.2,10.3
  region: 4,9.9 3,9.9 3,8.9 4,8.9
  rectangle: 0.2,8.9 1.2,9.9
  rectangle: 0.2,11.7 1.2,12.7
  region: 4,12.7 3,12.7 3,11.7 4,11.7
  region: 2.6,12.7 1.6,12.7 1.6,11.7 2.6,11.7
  rectangle: -2.6,11.7 -1.6,12.7
  rectangle: -4,11.7 -3,12.7
  region: -0.2,12.7 -1.2,12.7 -1.2,11.7 -0.2,11.7
  region: -0.2,9.9 -1.2,9.9 -1.2,8.9 -0.2,8.9
  rectangle: -4,8.9 -3,9.9
  region: -0.2,10.3 -0.2,11.3 -1.2,11.3 -1.2,10.3
  region: -3,7.5 -3,8.5 -4,8.5 -4,7.5
  rectangle: -4,10.3 -3,11.3
  rectangle: -2.6,8.9 -1.6,9.9
  rectangle: -1.2,7.5 -0.2,8.5
  region: -1.6,7.5 -1.6,8.5 -2.6,8.5 -2.6,7.5
  region: -2.6,11.3 -2.6,10.3 -1.6,10.3 -1.6,11.3
  region: -2.6,7.1 -2.6,6.1 -1.6,6.1 -1.6,7.1
  region: -1.6,3.3 -1.6,4.3 -2.6,4.3 -2.6,3.3
  rectangle: -1.2,3.3 -0.2,4.3
  rectangle: -2.6,4.7 -1.6,5.7
  rectangle: -4,6.1 -3,7.1
  region: -3,3.3 -3,4.3 -4,4.3 -4,3.3
  region: -0.2,6.1 -0.2,7.1 -1.2,7.1 -1.2,6.1
  rectangle: -4,4.7 -3,5.7
  region: -0.2,5.7 -1.2,5.7 -1.2,4.7 -0.2,4.7
  region: -2.6,16.9 -2.6,15.9 -1.6,15.9 -1.6,16.9
  region: -1.6,13.1 -1.6,14.1 -2.6,14.1 -2.6,13.1
  rectangle: -1.2,13.1 -0.2,14.1
  rectangle: -2.6,14.5 -1.6,15.5
  rectangle: -4,15.9 -3,16.9
  region: -3,13.1 -3,14.1 -4,14.1 -4,13.1
  region: -0.2,15.9 -0.2,16.9 -1.2,16.9 -1.2,15.9
  rectangle: -4,14.5 -3,15.5
  region: -0.2,15.5 -1.2,15.5 -1.2,14.5 -0.2,14.5
  rectangle: 0.2,14.5 1.2,15.5
  region: 4,15.5 3,15.5 3,14.5 4,14.5
  region: 1.2,15.9 1.2,16.9 0.2,16.9 0.2,15.9
  region: 4,13.1 4,14.1 3,14.1 3,13.1
  region: 4,16.9 3,16.9 3,15.9 4,15.9
  region: 2.6,15.5 1.6,15.5 1.6,14.5 2.6,14.5
  region: 1.2,14.1 0.2,14.1 0.2,13.1 1.2,13.1
  region: 2.6,13.1 2.6,14.1 1.6,14.1 1.6,13.1
  region: 1.6,16.9 1.6,15.9 2.6,15.9 2.6,16.9
3D body "NATIONALSEMI-TZA11A.STEP": height 6, standoff 0, extent -7.625,-0.615 7.625,17.915